# Altium footprint library JSTConnectors (1).PcbLib: 4 footprints
Each footprint in its own frame and in the unit in brackets; x right, y up, seen from the top. Pads: shape width x height; smd on the part's side, far side on the other; paste and mask are expansions set on the pad; w line width, h text height; cw(c..) or ccw(c..) is an arc to the next point about the centre after c.
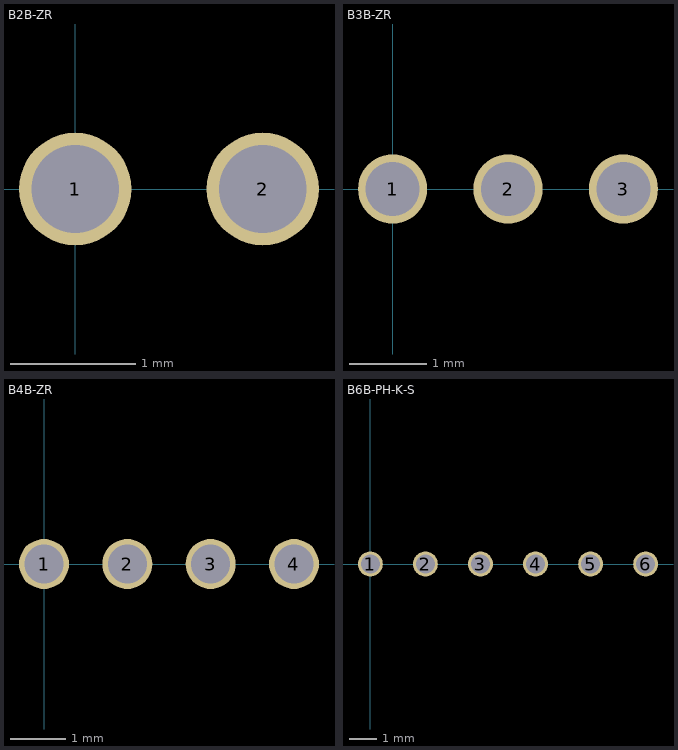
[diagram p0: the footprints below, top view; thin cyan lines are the x and y axes]

## B2B-ZR [mm]
pads (2):
  round 0.9 hole 0.7: 1(0,0) 2(1.5,0)
3D body: height 4.5, standoff 0, extent -1.5,-1.3 3,2.2

## B3B-ZR [mm]
pads (3):
  round 0.9 hole 0.7: 1(0,0) 2(1.5,0) 3(3,0)
3D body: height 4.5, standoff 0, extent -1.5,-1.3 4.5,2.2

## B4B-ZR [mm]
pads (4):
  round 0.9 hole 0.7: 1(0,0) 2(1.5,0) 3(3,0) 4(4.5,0)
3D body: height 4.5, standoff 0, extent -1.5,-1.3 6,2.2

## B6B-PH-K-S [mm]
pads (6):
  round 0.9 hole 0.7: 1(0,0) 2(2,0) 3(4,0) 4(6,0) 5(8,0) 6(10,0)
3D body: height 4.5, standoff 0, extent -1.45,-2.8 11.95,1.7